# Altium schematic symbol library Allegro Stepper Control.SchLib: 5 symbols
Pins are listed as number, name and electrical type; pins without a type are passive.

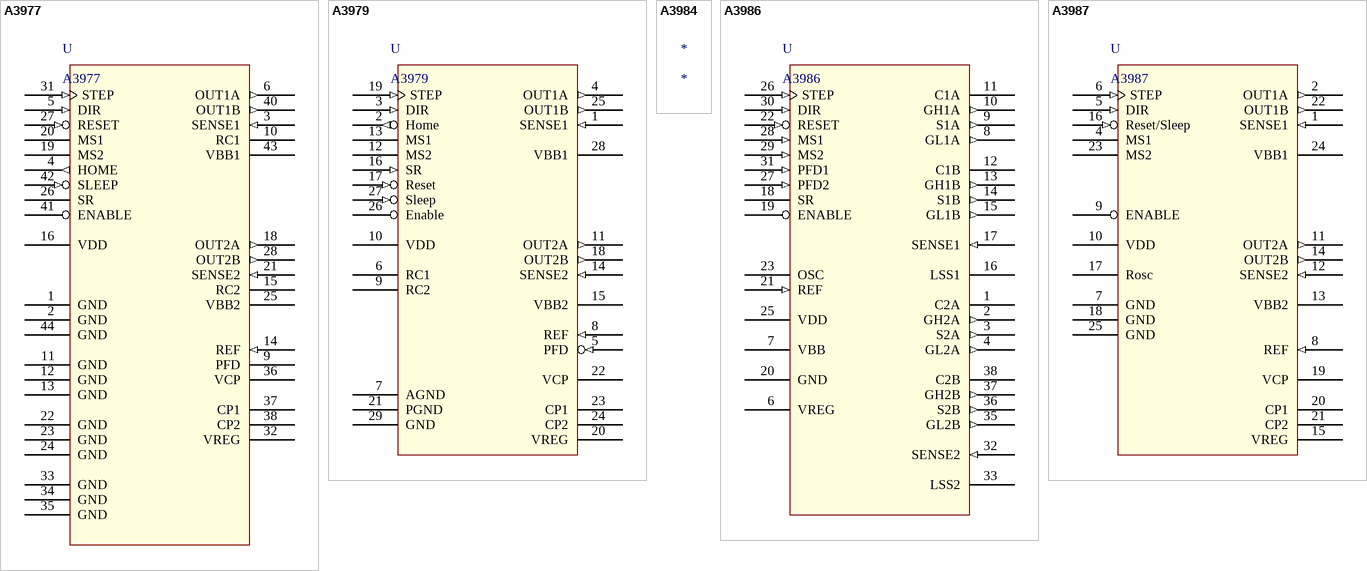
[diagram p0: symbols A3977 to A3987]

## A3977
designator U
Stepper Controller
footprint PLCC-44AM (Leaded Chip Carrier, 44-Leads, Body 16.6x16.6mm, Pitch 1.27mm, IPC Low Density)
pins: 1 GND (power), 2 GND (power), 3 SENSE1 (in), 4 HOME (out), 5 DIR (in), 6 OUT1A (out), 9 PFD, 10 RC1, 11 GND (power), 12 GND (power), 13 GND (power), 14 REF (in), 15 RC2, 16 VDD (power), 18 OUT2A (out), 19 MS2, 20 MS1, 21 SENSE2 (in), 22 GND (power), 23 GND (power), 24 GND (power), 25 VBB2 (power), 26 SR, 27 RESET (in), 28 OUT2B (out), 31 STEP (in), 32 VREG, 33 GND (power), 34 GND (power), 35 GND (power), 36 VCP, 37 CP1, 38 CP2, 40 OUT1B (out), 41 ENABLE, 42 SLEEP (in), 43 VBB1 (power), 44 GND (power)

## A3979
designator U
Microstepping DMOS Driver with Translator 2.5A
footprint TSOP65P640_HS-28AM (TSOP, 28-Leads, Body 9.7x4.4mm, Pitch 0.65mm, Exposed Pad, IPC Low Density)
pins: 1 SENSE1 (in), 2 Home (out), 3 DIR (in), 4 OUT1A (out), 5 PFD (in), 6 RC1, 7 AGND (power), 8 REF (in), 9 RC2, 10 VDD (power), 11 OUT2A (out), 12 MS2, 13 MS1, 14 SENSE2 (in), 15 VBB2 (power), 16 SR (in), 17 Reset (in), 18 OUT2B (out), 19 STEP (in), 20 VREG, 21 PGND (power), 22 VCP, 23 CP1, 24 CP2, 25 OUT1B (out), 26 Enable, 27 Sleep (in), 28 VBB1 (power), 29 GND (power)

## A3984
designator *

## A3986
designator U
Stepper Controller w External Full brige
footprint TSSOP50P640-38AM (TSSOP, 38-Leads, Body 9.7x4.4mm, Pitch 0.5mm, IPC Low Density)
pins: 1 C2A, 2 GH2A (out), 3 S2A (out), 4 GL2A (out), 6 VREG, 7 VBB (power), 8 GL1A (out), 9 S1A (out), 10 GH1A (out), 11 C1A, 12 C1B, 13 GH1B (out), 14 S1B (out), 15 GL1B (out), 16 LSS1, 17 SENSE1 (in), 18 SR, 19 ENABLE, 20 GND (power), 21 REF (in), 22 RESET (in), 23 OSC, 25 VDD (power), 26 STEP (in), 27 PFD2 (in), 28 MS1 (in), 29 MS2 (in), 30 DIR (in), 31 PFD1 (in), 32 SENSE2 (in), 33 LSS2, 35 GL2B (out), 36 S2B (out), 37 GH2B (out), 38 C2B

## A3987
designator U
Stepper Controller
footprint TSOP65P640_HS-24AM (TSOP, 24-Leads, Body 7.8x4.4mm, Pitch 0.65mm, IPC Low Density)
pins: 1 SENSE1 (in), 2 OUT1A (out), 4 MS1, 5 DIR (in), 6 STEP (in), 7 GND (power), 8 REF (in), 9 ENABLE, 10 VDD (power), 11 OUT2A (out), 12 SENSE2 (in), 13 VBB2 (power), 14 OUT2B (out), 15 VREG, 16 Reset/Sleep (in), 17 Rosc (power), 18 GND (power), 19 VCP, 20 CP1, 21 CP2, 22 OUT1B (out), 23 MS2, 24 VBB1 (power), 25 GND (power)